# EAGLE library part AS5048B (library encoder)
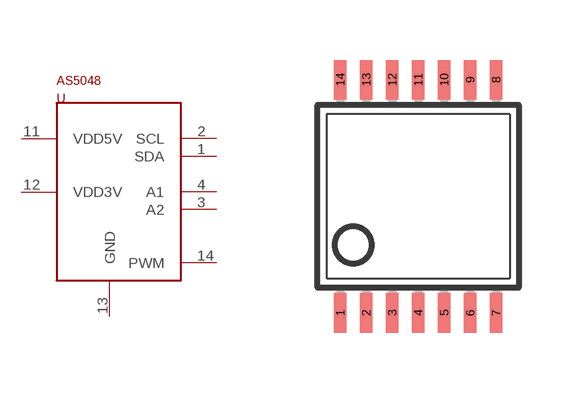
[diagram p0: symbol with the pads of TSSOP14; footprint TSSOP14]

Designator prefix -

## AS5048BTSSOP14  [TSSOP14]
1  SDA
2  SCL
3  A2
4  A1
11  VDD5V
12  VDD3V
13  GND
14  PWM

## Footprint TSSOP14 (pad centres in mm)
Thin Shrink Small Outline Plastic 14 MAX3223-MAX3243.pdf
smd 0.305 x 0.991: 1 -1.95,-2.918; 2 -1.3,-2.918; 3 -0.65,-2.918; 4 0,-2.918; 5 0.65,-2.918; 6 1.3,-2.918; 7 1.95,-2.918; 8 1.95,2.918; 9 1.3,2.918; 10 0.65,2.918; 11 0,2.918; 12 -0.65,2.918; 13 -1.3,2.918; 14 -1.95,2.918